# Altium schematic symbol library SW DIP-2.Schlib: 1 symbol
Pins are listed as number, name and electrical type; pins without a type are passive.

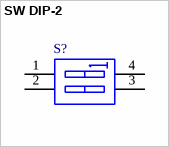
[diagram p0: symbol SW DIP-2]

## SW DIP-2
designator S?
DIP Switch, 2 Position, SPST
pins: 1 A1, 2 A2, 3 B2, 4 B1